# Altium schematic symbol library P_STM32_WB55.SchLib: 1 symbol
Pins are listed as number, name and electrical type; pins without a type are passive.

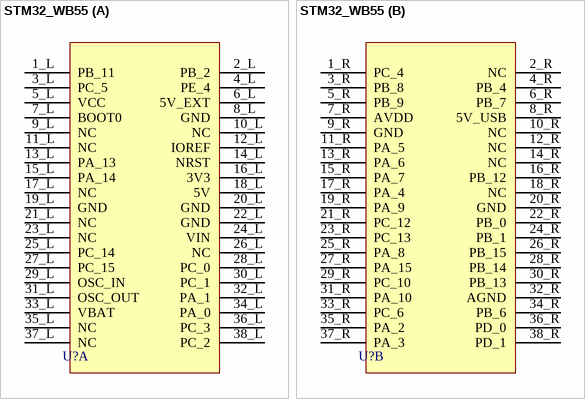
[diagram p0: symbol STM32_WB55]

## STM32_WB55
designator U?  (value not drawn)
footprint PCBComponent_1
part A pins: 1_L PB_11, 2_L PB_2, 3_L PC_5, 4_L PE_4, 5_L VCC, 6_L 5V_EXT, 7_L BOOT0, 8_L GND, 9_L NC, 10_L NC, 11_L NC, 12_L IOREF, 13_L PA_13, 14_L NRST, 15_L PA_14, 16_L 3V3, 17_L NC, 18_L 5V, 19_L GND, 20_L GND, 21_L NC, 22_L GND, 23_L NC, 24_L VIN, 25_L PC_14, 26_L NC, 27_L PC_15, 28_L PC_0, 29_L OSC_IN, 30_L PC_1, 31_L OSC_OUT, 32_L PA_1, 33_L VBAT, 34_L PA_0, 35_L NC, 36_L PC_3, 37_L NC, 38_L PC_2
part B pins: 1_R PC_4, 2_R NC, 3_R PB_8, 4_R PB_4, 5_R PB_9, 6_R PB_7, 7_R AVDD, 8_R 5V_USB, 9_R GND, 10_R NC, 11_R PA_5, 12_R NC, 13_R PA_6, 14_R NC, 15_R PA_7, 16_R PB_12, 17_R PA_4, 18_R NC, 19_R PA_9, 20_R GND, 21_R PC_12, 22_R PB_0, 23_R PC_13, 24_R PB_1, 25_R PA_8, 26_R PB_15, 27_R PA_15, 28_R PB_14, 29_R PC_10, 30_R PB_13, 31_R PA_10, 32_R AGND, 33_R PC_6, 34_R PB_6, 35_R PA_2, 36_R PD_0, 37_R PA_3, 38_R PD_1